# Altium schematic symbol library scr_0.Schlib: 1 symbol
Pins are listed as number, name and electrical type; pins without a type are passive.

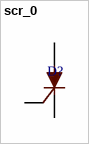
[diagram p0: symbol scr_0]

## scr_0
designator D?  (value not drawn)
Thyristor, Silicon Controlled Rectifier
pins: 1 K, 2 A, 3 G